# EAGLE library part MC33887 (library Freescale)
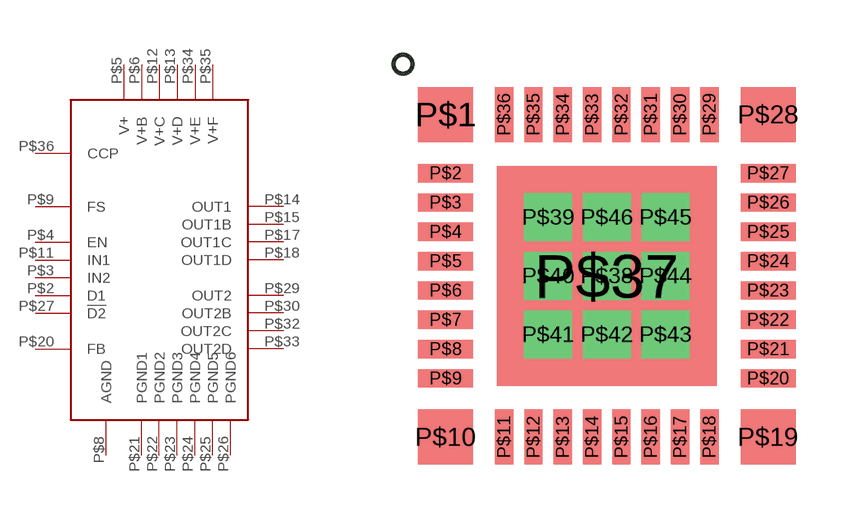
[diagram p0: symbol with the pads of MC33887_QFN; footprint MC33887_QFN]

Designator prefix -

## MC33887  [MC33887_QFN]
P$2  D1
P$3  IN2
P$4  EN
P$5  V+
P$6  V+B
P$8  AGND
P$9  FS
P$11  IN1
P$12  V+C
P$13  V+D
P$14  OUT1
P$15  OUT1B
P$17  OUT1C
P$18  OUT1D
P$20  FB
P$21  PGND1
P$22  PGND2
P$23  PGND3
P$24  PGND4
P$25  PGND5
P$26  PGND6
P$27  !D2
P$29  OUT2
P$30  OUT2B
P$32  OUT2C
P$33  OUT2D
P$34  V+E
P$35  V+F
P$36  CCP

## Footprint MC33887_QFN (pad centres in mm)
smd 1.5 x 1.5: P$1 -2.4,3.2; P$10 -2.4,-5.6; P$19 6.4,-5.6; P$28 6.4,3.2
smd 1.5 x 0.5: P$2 -2.4,1.6; P$3 -2.4,0.8; P$4 -2.4,0; P$5 -2.4,-0.8; P$6 -2.4,-1.6; P$7 -2.4,-2.4; P$8 -2.4,-3.2; P$9 -2.4,-4; P$20 6.4,-4; P$21 6.4,-3.2; P$22 6.4,-2.4; P$23 6.4,-1.6; P$24 6.4,-0.8; P$25 6.4,0; P$26 6.4,0.8; P$27 6.4,1.6
smd 0.5 x 1.5: P$11 -0.8,-5.6; P$12 0,-5.6; P$13 0.8,-5.6; P$14 1.6,-5.6; P$15 2.4,-5.6; P$16 3.2,-5.6; P$17 4,-5.6; P$18 4.8,-5.6; P$29 4.8,3.2; P$30 4,3.2; P$31 3.2,3.2; P$32 2.4,3.2; P$33 1.6,3.2; P$34 0.8,3.2; P$35 0,3.2; P$36 -0.8,3.2
smd 6 x 6: P$37 2,-1.2
drill 0.8 square: P$38 2,-1.2; P$39 0.4,0.4; P$40 0.4,-1.2; P$41 0.4,-2.8; P$42 2,-2.8; P$43 3.6,-2.8; P$44 3.6,-1.2; P$45 3.6,0.4; P$46 2,0.4